# Altium schematic symbol library WiCAN_lib.SchLib: 21 symbols
Pins are listed as number, name and electrical type; pins without a type are passive.

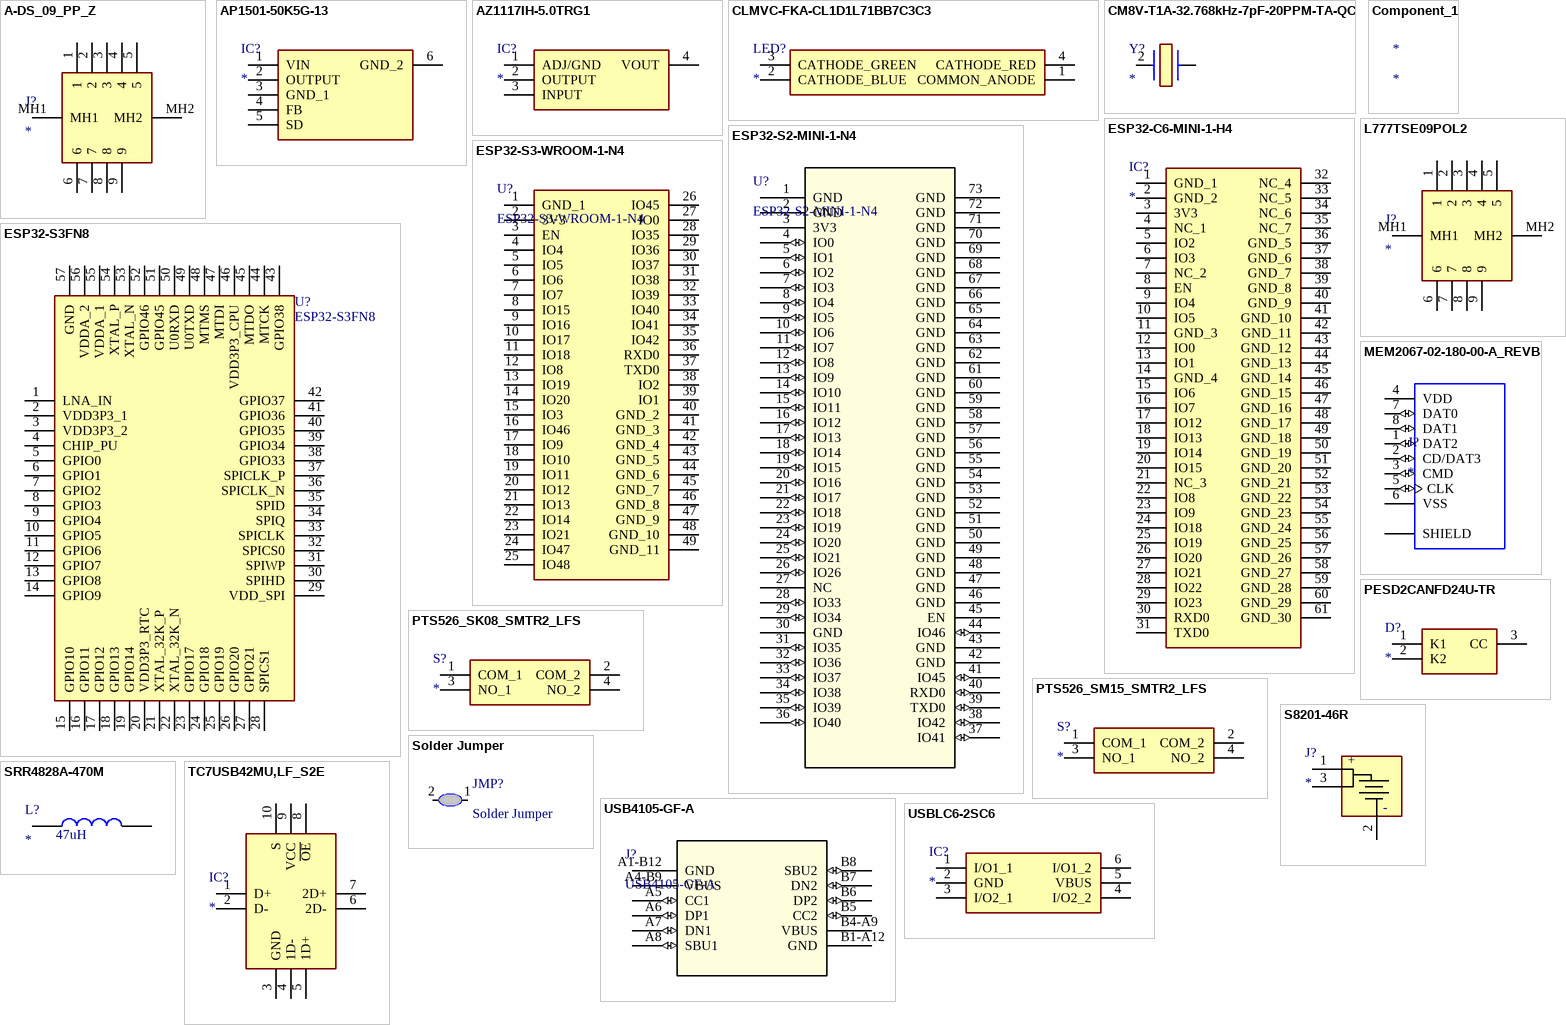
[diagram p0: symbols A-DS_09_PP_Z to USBLC6-2SC6]

## A-DS_09_PP_Z
designator J?
Connector; Manufacturer_Name: ASSMANN WSW components GmbH; Manufacturer_Part_Number: A-DS 09 PP/Z; Datasheet Link: https://datasheet.datasheetarchive.com/originals/distributors/DKDS-12/220555.pdf; Height: 12.35mm
footprint ADS09PPZ
pins: 1, 2, 3, 4, 5, 6, 7, 8, 9, MH1, MH2

## AP1501-50K5G-13
designator IC?
Integrated Circuit; Manufacturer_Name: Diodes Inc.; Manufacturer_Part_Number: AP1501-50K5G-13; Datasheet Link: https://www.diodes.com/assets/Datasheets/AP1501.pdf; Height: 4.85mm; Mouser Part Number: 621-AP1501-50K5G-13; Mouser Price/Stock: https://www.mouser.co.uk/ProductDetail/Diodes-Incorporated/AP1501-50K5G-13?qs=oUsD4qhOtFyyLLjAHWqfUw%3D%3D; Arrow Part Number: AP1501-50K5G-13; Arrow Price/Stock: https://www.arrow.com/en/products/ap1501-50k5g-13/diodes-incorporated?region=nac
footprint AP150150K5G13
pins: 1 VIN, 2 OUTPUT, 3 GND_1, 4 FB, 5 SD, 6 GND_2

## AZ1117IH-5.0TRG1
designator IC?
Integrated Circuit; Manufacturer_Name: Diodes Inc.; Manufacturer_Part_Number: AZ1117IH-5.0TRG1; Datasheet Link: https://www.diodes.com/assets/Datasheets/AZ1117I.pdf; Height: 1.7mm; Mouser Part Number: 621-AZ1117IH-5.0TRG1; Mouser Price/Stock: https://www.mouser.co.uk/ProductDetail/Diodes-Incorporated/AZ1117IH-5.0TRG1?qs=cpo3%2FpBou2jpUVbxjr50ag%3D%3D; Arrow Part Number: AZ1117IH-5.0TRG1; Arrow Price/Stock: https://www.arrow.com/en/products/az1117ih-5.0trg1/diodes-incorporated?region=nac
footprint SOT230P700X170-4N
pins: 1 ADJ/GND, 2 OUTPUT, 3 INPUT, 4 VOUT

## CLMVC-FKA-CL1D1L71BB7C3C3
designator LED?
LED; Manufacturer_Name: Wolfspeed; Manufacturer_Part_Number: CLMVC-FKA-CL1D1L71BB7C3C3; Datasheet Link: https://www.cree.com/led-components/media/documents/1273-CLMVC-FKA.pdf; Height: 1mm; Mouser Part Number: 941-CLMVCFKACL1D1L71; Mouser Price/Stock: https://www.mouser.co.uk/ProductDetail/Cree-LED/CLMVC-FKA-CL1D1L71BB7C3C3?qs=fSnNYG2PaKLJAXXrLOgMiQ%3D%3D; Arrow Part Number: CLMVC-FKA-CL1D1L71BB7C3C3; Arrow Price/Stock: https://www.arrow.com/en/products/clmvc-fka-cl1d1l71bb7c3c3/cree-led?region=nac
footprint CLMVCFKACL1D1L71BB7C3C3
pins: 1 COMMON_ANODE, 2 CATHODE_BLUE, 3 CATHODE_GREEN, 4 CATHODE_RED

## CM8V-T1A-32.768kHz-7pF-20PPM-TA-QC
designator Y?
Crystal or Oscillator; Manufacturer_Name: Micro Crystal AG; Manufacturer_Part_Number: CM8V-T1A-32.768kHz-7pF-20PPM-TA-QC; Datasheet Link: https://www.mouser.de/datasheet/2/530/CM8V_T1A-1510858.pdf; Height: 0.6mm; Mouser Part Number: 428-201436-MC01; Mouser Price/Stock: https://www.mouser.co.uk/ProductDetail/Micro-Crystal/CM8V-T1A-32.768kHz-7pF-20PPM-TA-QC?qs=7bTaA%2FLYtSYyZWzzv04BxA%3D%3D; Arrow Part Number: CM8V-T1A-32.768KHZ-7PF-20PPM-TA-QC; Arrow Price/Stock: https://www.arrow.com/en/products/cm8v-t1a-32.768khz-7pf-20ppm-ta-qc/micro-crystal-ag?region=nac
footprint CM8V32768TA020125
pins: 2 X2, ?1

## Component_1
designator *

## ESP32-C6-MINI-1-H4
designator IC?
Integrated Circuit; Manufacturer_Name: Espressif Systems; Manufacturer_Part_Number: ESP32-C6-MINI-1-H4; Datasheet Link: https://www.espressif.com/sites/default/files/documentation/esp32-c6-mini-1_mini-1u_datasheet_en.pdf; Height: 2.55mm; Mouser Part Number: 356-ESP32C6MINI1-H4; Mouser Price/Stock: https://www.mouser.co.uk/ProductDetail/Espressif-Systems/ESP32-C6-MINI-1-H4?qs=Jm2GQyTW%2Fbgg5ClQiAJNHw%3D%3D
footprint ESP32C6MINI1H4
pins: 1 GND_1, 2 GND_2, 3 3V3, 4 NC_1, 5 IO2, 6 IO3, 7 NC_2, 8 EN, 9 IO4, 10 IO5, 11 GND_3, 12 IO0, 13 IO1, 14 GND_4, 15 IO6, 16 IO7, 17 IO12, 18 IO13, 19 IO14, 20 IO15, 21 NC_3, 22 IO8, 23 IO9, 24 IO18, 25 IO19, 26 IO20, 27 IO21, 28 IO22, 29 IO23, 30 RXD0, 31 TXD0, 32 NC_4, 33 NC_5, 34 NC_6, 35 NC_7, 36 GND_5, 37 GND_6, 38 GND_7, 39 GND_8, 40 GND_9, 41 GND_10, 42 GND_11, 43 GND_12, 44 GND_13, 45 GND_14, 46 GND_15, 47 GND_16, 48 GND_17, 49 GND_18, 50 GND_19, 51 GND_20, 52 GND_21, 53 GND_22, 54 GND_23, 55 GND_24, 56 GND_25, 57 GND_26, 58 GND_27, 59 GND_28, 60 GND_29, 61 GND_30

## ESP32-S2-MINI-1-N4
designator U?
No Description Available; Mfr_Name: Espressif Systems; Copyright: Copyright (C) 2022 Ultra Librarian. All rights reserved.; Manufacturer_Part_Number: ESP32-S2-MINI-1-N4; Digi-Key_Part_Number_1: 1965-ESP32-S2-MINI-1-N4-ND; RefDes: RefDes; Type: DEV
footprint ESP32-S2-MINI-1-N4_EXP
pins: 1 GND, 2 GND, 3 3V3, 4 IO0 (io), 5 IO1 (io), 6 IO2 (io), 7 IO3 (io), 8 IO4 (io), 9 IO5 (io), 10 IO6 (io), 11 IO7 (io), 12 IO8 (io), 13 IO9 (io), 14 IO10 (io), 15 IO11 (io), 16 IO12 (io), 17 IO13 (io), 18 IO14 (io), 19 IO15 (io), 20 IO16 (io), 21 IO17 (io), 22 IO18 (io), 23 IO19 (io), 24 IO20 (io), 25 IO21 (io), 26 IO26 (io), 27 NC, 28 IO33 (io), 29 IO34 (io), 30 GND, 31 IO35 (io), 32 IO36 (io), 33 IO37 (io), 34 IO38 (io), 35 IO39 (io), 36 IO40 (io), 37 IO41 (io), 38 IO42 (io), 39 TXD0 (io), 40 RXD0 (io), 41 IO45 (io), 42 GND, 43 GND, 44 IO46 (io), 45 EN, 46 GND, 47 GND, 48 GND, 49 GND, 50 GND, 51 GND, 52 GND, 53 GND, 54 GND, 55 GND, 56 GND, 57 GND, 58 GND, 59 GND, 60 GND, 61 GND, 62 GND, 63 GND, 64 GND, 65 GND, 66 GND, 67 GND, 68 GND, 69 GND, 70 GND, 71 GND, 72 GND, 73 GND

## ESP32-S3-WROOM-1-N4
designator U?
Integrated Circuit; Manufacturer_Name: Espressif Systems; Datasheet Link: https://www.espressif.com/sites/default/files/documentation/esp32-s3-wroom-1_wroom-1u_datasheet_en.pdf; Height: 3.25mm; Manufacturer_Part_Number: ESP32-S3-WROOM-1-N4; Mouser Part Number: 356-ESP32-S3WROOM1N4; Mouser Price/Stock: https://www.mouser.co.uk/ProductDetail/Espressif-Systems/ESP32-S3-WROOM-1-N4?qs=Li%252BoUPsLEnsO%2FkiJOUK0FQ%3D%3D
footprint ESP32S3WROOM1N4
pins: 1 GND_1, 2 3V3, 3 EN, 4 IO4, 5 IO5, 6 IO6, 7 IO7, 8 IO15, 9 IO16, 10 IO17, 11 IO18, 12 IO8, 13 IO19, 14 IO20, 15 IO3, 16 IO46, 17 IO9, 18 IO10, 19 IO11, 20 IO12, 21 IO13, 22 IO14, 23 IO21, 24 IO47, 25 IO48, 26 IO45, 27 IO0, 28 IO35, 29 IO36, 30 IO37, 31 IO38, 32 IO39, 33 IO40, 34 IO41, 35 IO42, 36 RXD0, 37 TXD0, 38 IO2, 39 IO1, 40 GND_2, 41 GND_3, 42 GND_4, 43 GND_5, 44 GND_6, 45 GND_7, 46 GND_8, 47 GND_9, 48 GND_10, 49 GND_11

## ESP32-S3FN8
designator U?
Espressif Systems SMD IC , Dual-Core MCU, Wi-Fi 2.4G & BLE 5.0 combo, 8 MB Octal SPI PSRAM; Geometry.Height: 0.9mm; Mouser Part Number: 356-ESP32-S3FN8; Mouser Price/Stock: https://www.mouser.co.uk/ProductDetail/Espressif-Systems/ESP32-S3FN8?qs=Rp5uXu7WBW%2F4Oihh5tkiVQ%3D%3D; Manufacturer_Name: Espressif Systems; Manufacturer_Part_Number: ESP32-S3FN8; Datasheet Link: https://www.espressif.com/sites/default/files/documentation/esp32-s3_datasheet_en.pdf
footprint ESP32-S3FN8
pins: 1 LNA_IN, 2 VDD3P3_1, 3 VDD3P3_2, 4 CHIP_PU, 5 GPIO0, 6 GPIO1, 7 GPIO2, 8 GPIO3, 9 GPIO4, 10 GPIO5, 11 GPIO6, 12 GPIO7, 13 GPIO8, 14 GPIO9, 15 GPIO10, 16 GPIO11, 17 GPIO12, 18 GPIO13, 19 GPIO14, 20 VDD3P3_RTC, 21 XTAL_32K_P, 22 XTAL_32K_N, 23 GPIO17, 24 GPIO18, 25 GPIO19, 26 GPIO20, 27 GPIO21, 28 SPICS1, 29 VDD_SPI, 30 SPIHD, 31 SPIWP, 32 SPICS0, 33 SPICLK, 34 SPIQ, 35 SPID, 36 SPICLK_N, 37 SPICLK_P, 38 GPIO33, 39 GPIO34, 40 GPIO35, 41 GPIO36, 42 GPIO37, 43 GPIO38, 44 MTCK, 45 MTDO, 46 VDD3P3_CPU, 47 MTDI, 48 MTMS, 49 U0TXD, 50 U0RXD, 51 GPIO45, 52 GPIO46, 53 XTAL_N, 54 XTAL_P, 55 VDDA_1, 56 VDDA_2, 57 GND

## L777TSE09POL2
designator J?
Connector; Manufacturer_Name: Amphenol; Manufacturer_Part_Number: L777TSE09POL2; Description: Dsub; Datasheet Link: https://cdn.amphenol-cs.com/media/wysiwyg/files/drawing/l777tsxxxpol2.pdf; Height: 12.22mm; Mouser Part Number: 523-L777TSE09POL2; Mouser Price/Stock: https://www.mouser.co.uk/ProductDetail/Amphenol-Commercial-Products/L777TSE09POL2?qs=8nwx9VzGl4xjIfY3UQTpgw%3D%3D
footprint L777TSE09POL2
pins: 1, 2, 3, 4, 5, 6, 7, 8, 9, MH1, MH2

## MEM2067-02-180-00-A_REVB
designator J?
Micro SD Memory Card ConnectorSMT, Hinged, 1.80mm Profile; MP: MEM2067-02-180-00-A_REVB; Value: *; Package: None; Availability: Unavailable; Price: None
footprint GCT_MEM2067-02-180-00-A_REVB
pins: 1 DAT2 (io), 2 CD/DAT3 (io), 3 CMD (io), 4 VDD (power), 5 CLK (io), 6 VSS (power), 7 DAT0 (io), 8 DAT1 (io), 9 SHIELD, 10 SHIELD, 11 SHIELD, 12 SHIELD

## PESD2CANFD24U-TR
designator D?
Diode; Manufacturer_Name: Nexperia; Manufacturer_Part_Number: PESD2CANFD24U-TR; Datasheet Link: https://assets.nexperia.com/documents/data-sheet/PESD2CANFD24U-T.pdf; Height: 1.1mm; Mouser Part Number: 771-PESD2CANFD24U-TR; Mouser Price/Stock: https://www.mouser.co.uk/ProductDetail/Nexperia/PESD2CANFD24U-TR?qs=vmHwEFxEFR%252BPr2so13o7KA%3D%3D; Arrow Part Number: PESD2CANFD24U-TR; Arrow Price/Stock: https://www.arrow.com/en/products/pesd2canfd24u-tr/nexperia
footprint SOT95P230X110-3N
pins: 1 K1, 2 K2, 3 CC

## PTS526_SK08_SMTR2_LFS
designator S?
Switch; Manufacturer_Name: C & K COMPONENTS; Manufacturer_Part_Number: PTS526 SK08 SMTR2 LFS; Datasheet Link: https://www.ckswitches.com/media/2780/pts526.pdf; Height: 1.6mm; Mouser Part Number: 611-PTS526SK08SMTR2L; Mouser Price/Stock: https://www.mouser.co.uk/ProductDetail/CK/PTS526-SK08-SMTR2-LFS?qs=UXgszm6BlbECw%2FyKtIWLXA%3D%3D; Arrow Part Number: PTS526 SK08 SMTR2 LFS; Arrow Price/Stock: https://www.arrow.com/en/products/pts526-sk08-smtr2-lfs/ck?region=nac
footprint PTS526SKG15SMTR2LFS
pins: 1 COM_1, 2 COM_2, 3 NO_1, 4 NO_2

## PTS526_SM15_SMTR2_LFS
designator S?
Switch; Manufacturer_Name: C & K COMPONENTS; Manufacturer_Part_Number: PTS526 SM15 SMTR2 LFS; Datasheet Link: https://www.mouser.com/datasheet/2/60/pts526-1651200.pdf; Height: 1.5mm; Mouser Part Number: 611-PTS526SM15SMTR2L; Mouser Price/Stock: https://www.mouser.co.uk/ProductDetail/CK/PTS526-SM15-SMTR2-LFS?qs=UXgszm6BlbENivbslIA%252B5g%3D%3D; Arrow Part Number: PTS526 SM15 SMTR2 LFS; Arrow Price/Stock: https://www.arrow.com/en/products/pts526-sm15-smtr2-lfs/ck?region=nac
footprint PTS526SM15SMTR2LFS
pins: 1 COM_1, 2 COM_2, 3 NO_1, 4 NO_2

## S8201-46R
designator J?
Connector; Manufacturer_Name: Harwin; Manufacturer_Part_Number: S8201-46R; Datasheet Link: https://cdn.harwin.com/pdfs/S8201R.pdf; Mouser Part Number: 855-S8201-46R; Mouser Price/Stock: https://www.mouser.co.uk/ProductDetail/Harwin/S8201-46R?qs=UmERj8vReOlBAjlRZWzWbg%3D%3D
footprint S8201-46R
pins: 1, 2, 3
text: +; -

## Solder Jumper
designator JMP?
footprint Solder Jumper
pins: 1, 2

## SRR4828A-470M
designator L?  Inductance: 47uH
Inductor; Manufacturer_Name: Bourns; Manufacturer_Part_Number: SRR4828A-470M; Datasheet Link: https://www.bourns.com/docs/Product-Datasheets/SRR4828A.pdf; Height: 3mm; Mouser Part Number: 652-SRR4828A-470M; Mouser Price/Stock: https://www.mouser.co.uk/ProductDetail/Bourns/SRR4828A-470M?qs=EU6FO9ffTwekJ%252BqixsyVcA%3D%3D; Arrow Part Number: SRR4828A-470M; Arrow Price/Stock: https://www.arrow.com/en/products/srr4828a-470m/bourns
footprint SRR4828A560M
pins: 1, 2

## TC7USB42MU,LF_S2E
designator IC?
Integrated Circuit; Manufacturer_Name: Toshiba; Manufacturer_Part_Number: TC7USB42MU,LF(S2E; Datasheet Link: https://toshiba.semicon-storage.com/ap-en/semiconductor/product/general-purpose-logic-ics/detail.TC7USB42MU.html; Height: 0.5mm; Mouser Part Number: 757-TC7USB42MULFS2E; Mouser Price/Stock: https://www.mouser.co.uk/ProductDetail/Toshiba/TC7USB42MULFS2E?qs=7D1LtPJG0i2u0rSmlbe57g%3D%3D
footprint TC7USB42MULFS2E
pins: 1 D+, 2 D-, 3 GND, 4 1D-, 5 1D+, 6 2D-, 7 2D+, 8 ~{OE}, 9 VCC, 10 S

## USB4105-GF-A
designator J?
No Description Available; Mfr_Name: Global Connector Technology; Copyright: Copyright (C) 2022 Ultra Librarian. All rights reserved.; Manufacturer_Part_Number: USB4105-GF-A; Digi-Key_Part_Number_1: 2073-USB4105-GF-ACT-ND; Digi-Key_Part_Number_2: 2073-USB4105-GF-ADKR-ND; Digi-Key_Part_Number_3: 2073-USB4105-GF-ATR-ND; RefDes: RefDes; Type: DEV
footprint USB4105_GCT
pins: A1-B12 GND, A4-B9 VBUS (power), A5 CC1 (io), A6 DP1 (io), A7 DN1 (io), A8 SBU1 (io), B1-A12 GND, B4-A9 VBUS (power), B5 CC2 (io), B6 DP2 (io), B7 DN2 (io), B8 SBU2 (io)

## USBLC6-2SC6
designator IC?
Integrated Circuit; Manufacturer_Name: STMicroelectronics; Manufacturer_Part_Number: USBLC6-2SC6; Datasheet Link: http://www.st.com/st-web-ui/static/active/en/resource/technical/document/datasheet/CD00050750.pdf; Height: 1.45mm; Mouser Part Number: 511-USBLC6-2SC6; Mouser Price/Stock: https://www.mouser.co.uk/ProductDetail/STMicroelectronics/USBLC6-2SC6?qs=po45yt2pPpu%2FhNIlwQdTlg%3D%3D; Arrow Part Number: USBLC6-2SC6; Arrow Price/Stock: https://www.arrow.com/en/products/usblc6-2sc6/stmicroelectronics?region=nac
footprint SOT95P280X145-6N
pins: 1 I/O1_1, 2 GND, 3 I/O2_1, 4 I/O2_2, 5 VBUS, 6 I/O1_2